# Altium schematic symbol library Connectors.SchLib: 15 symbols
Pins are listed as number, name and electrical type; pins without a type are passive.

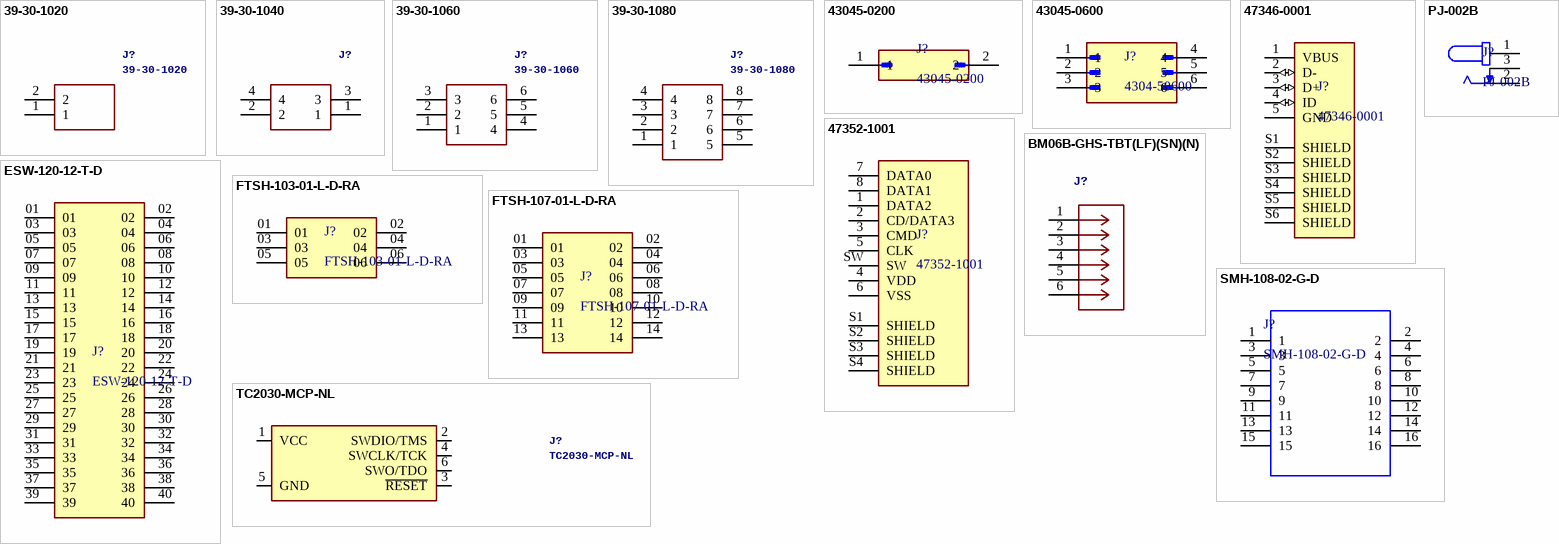
[diagram p0: symbols 39-30-1020 to TC2030-MCP-NL]

## 39-30-1020
designator J?
Molex Minifit 2POS; SuppliersPartNumber: *; Manufacturer: Molex; PartNumber: 39-30-1020; Link: https://www.mouser.ca/ProductDetail/Molex/39-30-1020?qs=sGAEpiMZZMvlX3nhDDO4ABCJ7HnV8iKdnJL%2FaGqrgR8%3D; SupplierNumber: 538-39-30-1020; Package: *; Value: *
footprint MOLEX_39-30-1020
pins: 1, 2

## 39-30-1040
designator J?, comment 4 way r/a PCB header w/peg,Mini-Fit Jr Molex MINI-FIT JR. Series, Series Number 5569, 4.2mm Pitch 4 Way 2 Row Shrouded Right Angle PCB Header, Through Hole   Source:  Datasheet  (value not drawn)
Molex Minifit 4POS; PartNumber: 39-30-1040; Manufacturer: Molex; SuppliersPartNumber: *; SupplierNumber: 538-39-30-1040; Link: https://www.mouser.ca/ProductDetail/Molex/39-30-1040?qs=tRPrwvvr%2FugKtPXHFlZTbg%3D%3D; Value: *; Package: *
footprint MOLEX_39-30-1040
pins: 1, 2, 3, 4

## 39-30-1060
designator J?
Molex Minifit 4POS; PartNumber: 39-30-1060; SuppliersPartNumber: *; Manufacturer: Molex; SupplierNumber: 538-39-30-1060; Link: https://www.mouser.ca/ProductDetail/Molex/39-30-1060?qs=tRPrwvvr%2FujbUr18ehTIWQ%3D%3D; Package: *
footprint MOLEX_39-30-1060
pins: 1, 2, 3, 4, 5, 6

## 39-30-1080
designator J?
Molex Minifit 8POS; SuppliersPartNumber: *; DeviceSetName: 39-30-1080; Manufacturer: Molex; PartNumer: 39-30-1080; SupplierNumber: 538-39-30-1080; Link: https://www.mouser.ca/ProductDetail/Molex/39-30-1080?qs=tRPrwvvr%2FuiZl%252BsjwLcglw%3D%3D; Package: *
footprint MOLEX_39-30-1080
pins: 1, 2, 3, 4, 5, 6, 7, 8

## 43045-0200
designator J?
Molex Microfit 2POS; SupplerNumber: WM1813-ND; MF: Molex; Digi-Key_Part_Number: WM1813-ND; SnapEDA_Link: https://www.snapeda.com/parts/43045-0200/Molex/view-part/?ref=snap; Purchase-URL: https://pricing.snapeda.com/search/part/43045-0200/?ref=eda; Package: None; MP: 43045-0200; Check_prices: https://www.snapeda.com/parts/43045-0200/Molex/view-part/?ref=eda; Value: *; PartNumber: 43045-0200; Link: https://www.digikey.ca/en/products/detail/molex/0430450200/252526?s=N4IgTCBcDaICwGYAMcCsBaJYlJAXQF8g
footprint MOLEX_43045-0200
pins: 1, 2

## 43045-0600
designator J?, comment 4304-50600
Molex Microfit 6POS; PartNumber: 430450600; SupplerNumber: WM1815-ND; Package: None; Manufacturer: Molex; Value: *; Link: https://www.digikey.ca/en/products/detail/molex/0430450600/252528; SuppliersPartNumber: *
footprint MOLEX_4304-50600
pins: 1, 2, 3, 4, 5, 6

## 47346-0001
designator J?
Molex MicroUSB USB-B; Package: SMD; PartNumber: 47346-0001; Link: https://www.digikey.ca/en/products/detail/molex/0473460001/1782470?s=N4IgTCBcDaICwHYDMcBsAGTBGEBdAvkA; Manufacturer: Molex; SupplierPartNumber: C132560; Value: *; SupplierNumber: WM17141TR-ND
footprint MOLEX_47346-0001
pins: 1 VBUS (power), 2 D- (io), 3 D+ (io), 4 ID (io), 5 GND (power), S1 SHIELD, S2 SHIELD, S3 SHIELD, S4 SHIELD, S5 SHIELD, S6 SHIELD

## 47352-1001
designator J?
SD Card Connector; Manufacturer: Molex; SuppliersPartNumber: C293569; Value: *; Link: https://www.digikey.ca/en/products/detail/molex/0473521001/2404949?s=N4IgTCBcDaICwHYDMBWMBaAjABm5kAugL5A; SupplierNumber: WM3290TR-ND; Purchase-URL: https://pricing.snapeda.com/search/part/47352-1001/?ref=eda; Package: SMD; PartNumber: 47352-1001
footprint MOLEX_47352-1001
pins: 1 DATA2, 2 CD/DATA3, 3 CMD, 4 VDD, 5 CLK, 6 VSS, 7 DATA0, 8 DATA1, S1 SHIELD, S2 SHIELD, S3 SHIELD, S4 SHIELD, SW

## BM06B-GHS-TBT(LF)(SN)(N)
designator J?  (value not drawn)
JST SMD Header 6POS; Link: https://www.digikey.ca/en/products/detail/jst-sales-america-inc/BM06B-GHS-TBT-LF-SN-N/807804?s=N4IgTCBcDaIEIFkAMA2OBaA4gCQMroBU4CAKAGQDEBKE3AORoZAF0BfIA; Value: *; Package: SMD, P=1.25mm; SuppliersPartNumber: C189892; Manufacturer: JST; PartNumber: BM06B-GHS-TBT(LF)(SN)(N); SupplierNumber: 455-1582-2-ND
footprint JST_BM06B-GHS-TBT
pins: 1, 2, 3, 4, 5, 6

## ESW-120-12-T-D
designator J?
Samtec 40-pos socket header 0.1in pitch; Manufacturer: Samtec; SupplierNumber: ESW-120-12-T-D-ND; Value: *; SuppliersPartNumber: *; Package: *; PartNumber: ESW-120-12-T-D; Link: https://www.digikey.ca/en/products/detail/samtec-inc/ESW-120-12-T-D/7208716
footprint SAMTEC_ESW-120-12-T-D
pins: 01, 02, 03, 04, 05, 06, 07, 08, 09, 10, 11, 12, 13, 14, 15, 16, 17, 18, 19, 20, 21, 22, 23, 24, 25, 26, 27, 28, 29, 30, 31, 32, 33, 34, 35, 36, 37, 38, 39, 40

## FTSH-103-01-L-D-RA
designator J?
Samtec Through hole, Right-angle. 6POS, 0.050inch Pitch; Link: https://www.digikey.ca/en/products/detail/samtec-inc/FTSH-103-01-L-D-RA/6692243?s=N4IgjCBcoEwBxVAYygMwIYBsDOBTANCAPZQDaIAzAKzUwBsIAuoQA4AuUIAymwE4CWAOwDmIAL6E6ATkQgUkDDgLEyIACxgwUmBGYh2nHgJHjCcBNDloseQiUjkYaqQHYKABiasOkbnyGiEiBSnpbyirYqDuA6FPRe%2Bj5%2BxoGEUhBh1kp2qnFgdGAIega%2BRgGmIFRgMLLhNsr25BQuYNQUCSXJ5UFgLiG1WZGNIC7uMDXFSWUmPVJwMpkK9TnRnoxBMGNqA0vZUeSj4x1T-jOEmzBUOxENqmDuVH3HhqepIAC0GciDt9EFE0F3ttFjcVuQ1HAKDJ1oR3jVFnwAK6-chXdZiMRAA; SupplierNumber: SAM11245-ND; Value: *; PartNumber: FTSH-103-01-L-D-RA; Package: *; SuppliersPartNumber: *
footprint SAMTEC_FTSH-103-01-L-D-RA
pins: 01, 02, 03, 04, 05, 06

## FTSH-107-01-L-D-RA
designator J?
Samtec Through hole, Right-angle. 14POS, 0.050inch Pitch; Link: https://www.digikey.ca/en/products/detail/samtec-inc/FTSH-107-01-L-D-RA/2650003; SupplierNumber: SAM10504-ND; Value: *; PartNumber: FTSH-107-01-L-D-RA; Package: *; SuppliersPartNumber: *
footprint SAMTEC_FTSH-107-01-L-D-RA
pins: 01, 02, 03, 04, 05, 06, 07, 08, 09, 10, 11, 12, 13, 14

## PJ-002B
designator J?
CUI DC Power Jack, 2.5 A, Right Angle, Through Hole; Manuacturer: CP-002B-ND; Package: *; Value: *; PartNumber: PJ-002B; SupplierNumber: Unavailable; SuppliersPartNumber: C3094235; Link: https://www.digikey.ca/en/products/detail/cui-devices/PJ-002B/96965
footprint CUI_PJ-002B
pins: 1, 2, 3

## SMH-108-02-G-D
designator J?
Samtec 16POS 0.1in pitch; PartNumber: SAM11816-ND; Value: 0.1 inch pitch header; Package: *; Link: https://www.digikey.ca/en/products/detail/samtec-inc/SMH-108-02-G-D/6693456; SupplierPartNumber: SMH-108-02-G-D; SuppliersPartNumber: *
footprint SAMTEC_SMH-108-02-G-D
pins: 1, 2, 3, 4, 5, 6, 7, 8, 9, 10, 11, 12, 13, 14, 15, 16

## TC2030-MCP-NL
designator J?
STM32 Debug PCB Footprint TC2030-MCP-NL; Manufacturer: Microchip; PartNumber: TC2030-MCP-NL; Manufacturer_Part_Number: TC2030-MCP-NL; Link: https://www.digikey.ca/en/products/detail/tag-connect-llc/TC2030-MCP-NL/2666489; Value: *; SuppliersPartNumber: *; SupplierNumber: TC2030-MCP-NLTC-ND
footprint TC2030-IDC-NL
pins: 1 VCC (io), 2 SWDIO/TMS (io), 3 ~{RESET} (io), 4 SWCLK/TCK (io), 5 GND (io), 6 SWO/TDO (io)